# Altium integrated library LT3477.IntLib: 2 symbols
Pins are listed as number, name and electrical type; pins without a type are passive.

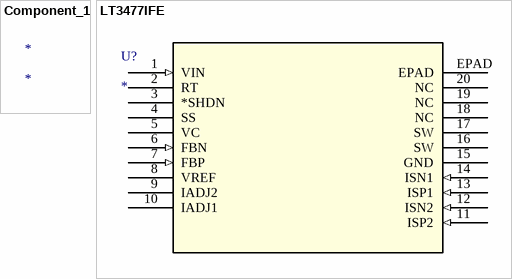
[diagram p0: symbols Component_1 to LT3477IFE]

## Component_1
designator *

## LT3477IFE
designator U?
Imported; Manufacturer_Part_Number: lt3477ife; Vendor: Linear Technology; Value: Value; Type: Type; RefDes: RefDes
footprint TSSOP-20_FE/CB
pins: 1 VIN (in), 2 RT, 3 *SHDN, 4 SS, 5 VC, 6 FBN (in), 7 FBP (in), 8 VREF, 9 IADJ2, 10 IADJ1, 11 ISP2 (in), 12 ISN2 (in), 13 ISP1 (in), 14 ISN1 (in), 15 GND (power), 16 SW, 17 SW, 18 NC, 19 NC, 20 NC, EPAD